# Altium footprint library AIRZAI_LID_BD_REVA1.PcbLib: 22 footprints (part 2 of 2)
Each footprint in its own frame and in the unit in brackets; x right, y up, seen from the top. Pads: shape width x height; smd on the part's side, far side on the other; paste and mask are expansions set on the pad; w line width, h text height; cw(c..) or ccw(c..) is an arc to the next point about the centre after c.
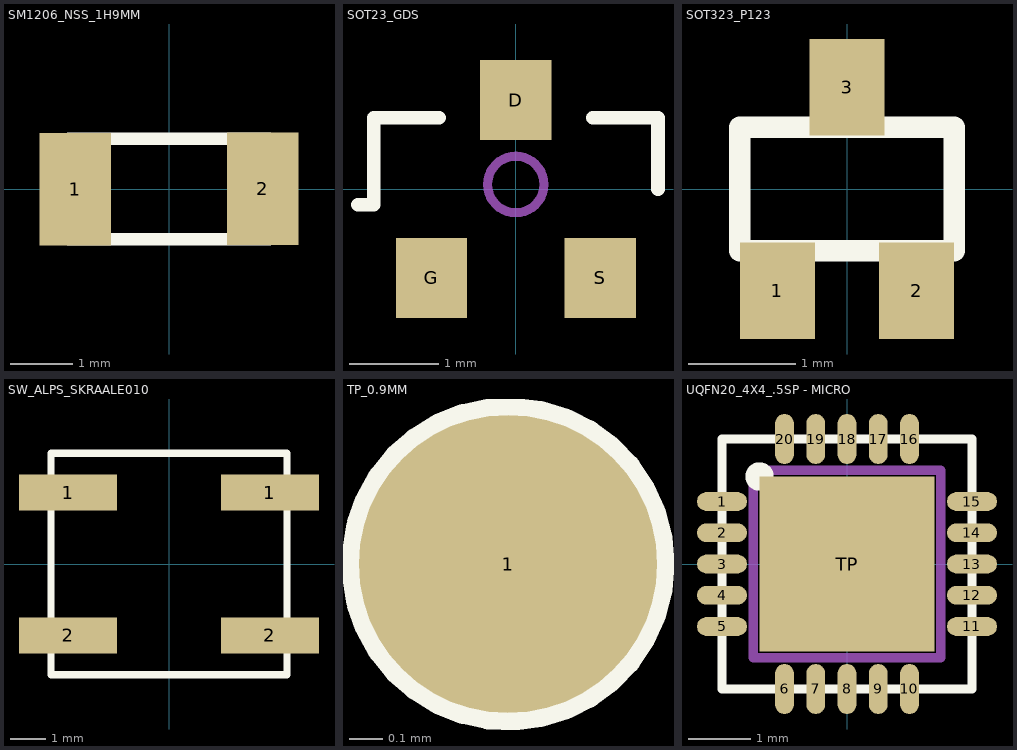
[diagram p1: the footprints below, top view; thin cyan lines are the x and y axes]

## SM1206_NSS_1H9MM [mm]
pads (2):
  rect 1.15x1.8 smd: 1(-1.5,0) 2(1.5,0)
Top Overlay:
  lines w0.2: -1.6,-0.8 1.6,-0.8 1.6,0.8 -1.6,0.8 -1.6,-0.8
3D body: height 1.9, standoff 0, extent -1.7,-0.9 1.7,0.9

## SOT23_GDS [mm]
pads (3):
  rect 0.8x0.9 smd: D(0,1)
  rect 0.8x0.9 smd paste-0.05 mask+0.07: G(-0.95,-1) S(0.95,-1)
Top Overlay:
  lines w0.152: -1.775,-0.175 -1.6,-0.175 -1.6,0.8 -0.864,0.8 ; 0.864,0.8 1.6,0.8 1.6,0
Mechanical 3:
  lines w0.102: -0.318,0.051 ccw(c0,0.051) 0,-0.267 ccw(c0,0.051) 0.318,0.051 ccw(c0,0.051) 0,0.368 ccw(c0,0.051) -0.318,0.051
3D body: height 1.2, standoff 0, extent -1.5,-0.7 1.5,0.7

## SOT323_P123 [mm]
pads (3):
  rect 0.7x0.9 smd: 1(-0.65,-0.95) 2(0.65,-0.95) 3(0,0.95)
Top Overlay:
  lines w0.2: -1,-0.575 -1,0.575 1,0.575 1,-0.575 -1,-0.575
Mechanical 1:
  lines w0.127: -1,-0.6 -1,0.6 1,0.6 1,-0.6 -0.85,-0.6 -1,-0.6
3D body: height 1.1, standoff 0.1, extent -1.1,-0.675 1.1,0.675
3D body: height 0.1, standoff 0, extent -0.2,0.675 0.2,1.1
3D body: height 0.1, standoff 0, extent -0.85,-1.1 -0.45,-0.675
3D body: height 0.1, standoff 0, extent 0.45,-1.1 0.85,-0.675

## SW_ALPS_SKRAALE010 [mm]
pads (4):
  rect 2.75x1 smd paste-0.1 mask+0.102: 1(-2.825,2) 1(2.825,2) 2(-2.825,-2) 2(2.825,-2)
Top Overlay:
  lines w0.2: -3.3,-3.1 -3.3,3.1 3.3,3.1 3.3,-3.1 -3.3,-3.1
3D body "SKRAAL.STEP": height 3.48, standoff 0, extent -3.399,-3.215 3.399,3.215

## TP_0.9MM [mm]
pads (1):
  round 0.9 smd paste-5 mask+0.05: 1(0,0)
Top Overlay:
  circle w0.1: c0,0 r0.452

## UQFN20_4X4_.5SP - MICRO [mm]
pads (21):
  rrect100% 0.8x0.3 smd paste-0.025 mask+0.05: 1(-2,1) 2(-2,0.5) 3(-2,0) 4(-2,-0.5) 5(-2,-1) 11(2,-1) 12(2,-0.5) 13(2,0) 14(2,0.5) 15(2,1)
  rrect100% 0.3x0.8 smd paste-0.025 mask+0.05: 6(-1,-2) 7(-0.5,-2) 8(0,-2) 9(0.5,-2) 10(1,-2) 16(1,2) 17(0.5,2) 18(0,2) 19(-0.5,2) 20(-1,2)
  rect 2.8x2.8 smd paste-5 mask+0.05: TP(0,0)
Top Overlay:
  circle w0.254: c-1.4,1.4 r0.1
  lines w0.15: -2,-2 -2,2 2,2 2,-2 -2,-2
Top Paste:
  region: 1.194,-0.508 1.202,-0.527 1.202,-1.077 1.194,-1.096 1.175,-1.104 0.625,-1.104 0.606,-1.096 0.598,-1.077 0.598,-0.527 0.606,-0.508 0.625,-0.5 1.175,-0.5
  region: 1.192,0.294 1.2,0.275 1.2,-0.275 1.192,-0.294 1.173,-0.302 0.623,-0.302 0.604,-0.294 0.596,-0.275 0.596,0.275 0.604,0.294 0.623,0.302 1.173,0.302
  region: 1.194,1.096 1.202,1.077 1.202,0.527 1.194,0.508 1.175,0.5 0.625,0.5 0.606,0.508 0.598,0.527 0.598,1.077 0.606,1.096 0.625,1.104 1.175,1.104
  region: 0.294,-0.508 0.302,-0.527 0.302,-1.077 0.294,-1.096 0.275,-1.104 -0.275,-1.104 -0.294,-1.096 -0.302,-1.077 -0.302,-0.527 -0.294,-0.508 -0.275,-0.5 0.275,-0.5
  region: 0.292,0.294 0.3,0.275 0.3,-0.275 0.292,-0.294 0.273,-0.302 -0.277,-0.302 -0.296,-0.294 -0.304,-0.275 -0.304,0.275 -0.296,0.294 -0.277,0.302 0.273,0.302
  region: 0.294,1.096 0.302,1.077 0.302,0.527 0.294,0.508 0.275,0.5 -0.275,0.5 -0.294,0.508 -0.302,0.527 -0.302,1.077 -0.294,1.096 -0.275,1.104 0.275,1.104
  region: -0.606,1.096 -0.598,1.077 -0.598,0.527 -0.606,0.508 -0.625,0.5 -1.175,0.5 -1.194,0.508 -1.202,0.527 -1.202,1.077 -1.194,1.096 -1.175,1.104 -0.625,1.104
  region: -0.608,0.294 -0.6,0.275 -0.6,-0.275 -0.608,-0.294 -0.627,-0.302 -1.177,-0.302 -1.196,-0.294 -1.204,-0.275 -1.204,0.275 -1.196,0.294 -1.177,0.302 -0.627,0.302
  region: -0.606,-0.508 -0.598,-0.527 -0.598,-1.077 -0.606,-1.096 -0.625,-1.104 -1.175,-1.104 -1.194,-1.096 -1.202,-1.077 -1.202,-0.527 -1.194,-0.508 -1.175,-0.5 -0.625,-0.5
Mechanical 1:
  circle w0.15: c-0.85,-0.85 r0.206
  lines w0.15: -1.5,-1.5 -1.5,1.5 1.5,1.5 1.5,-1.5 -1.5,-1.5
  text ".Designator" at -1.1,-0.325 h0.48
3D body: height 0.5, standoff 0, extent -2,-2 2,2